# Altium schematic symbol library 61200621621.SchLib: 1 symbol
Pins are listed as number, name and electrical type; pins without a type are passive.

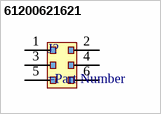
[diagram p0: symbol 61200621621]

## 61200621621
designator J?
=Description
pins: 1, 2, 3, 4, 5, 6